# Altium integrated library Microchip Thermal Management.IntLib: 360 symbols (part 5 of 10)
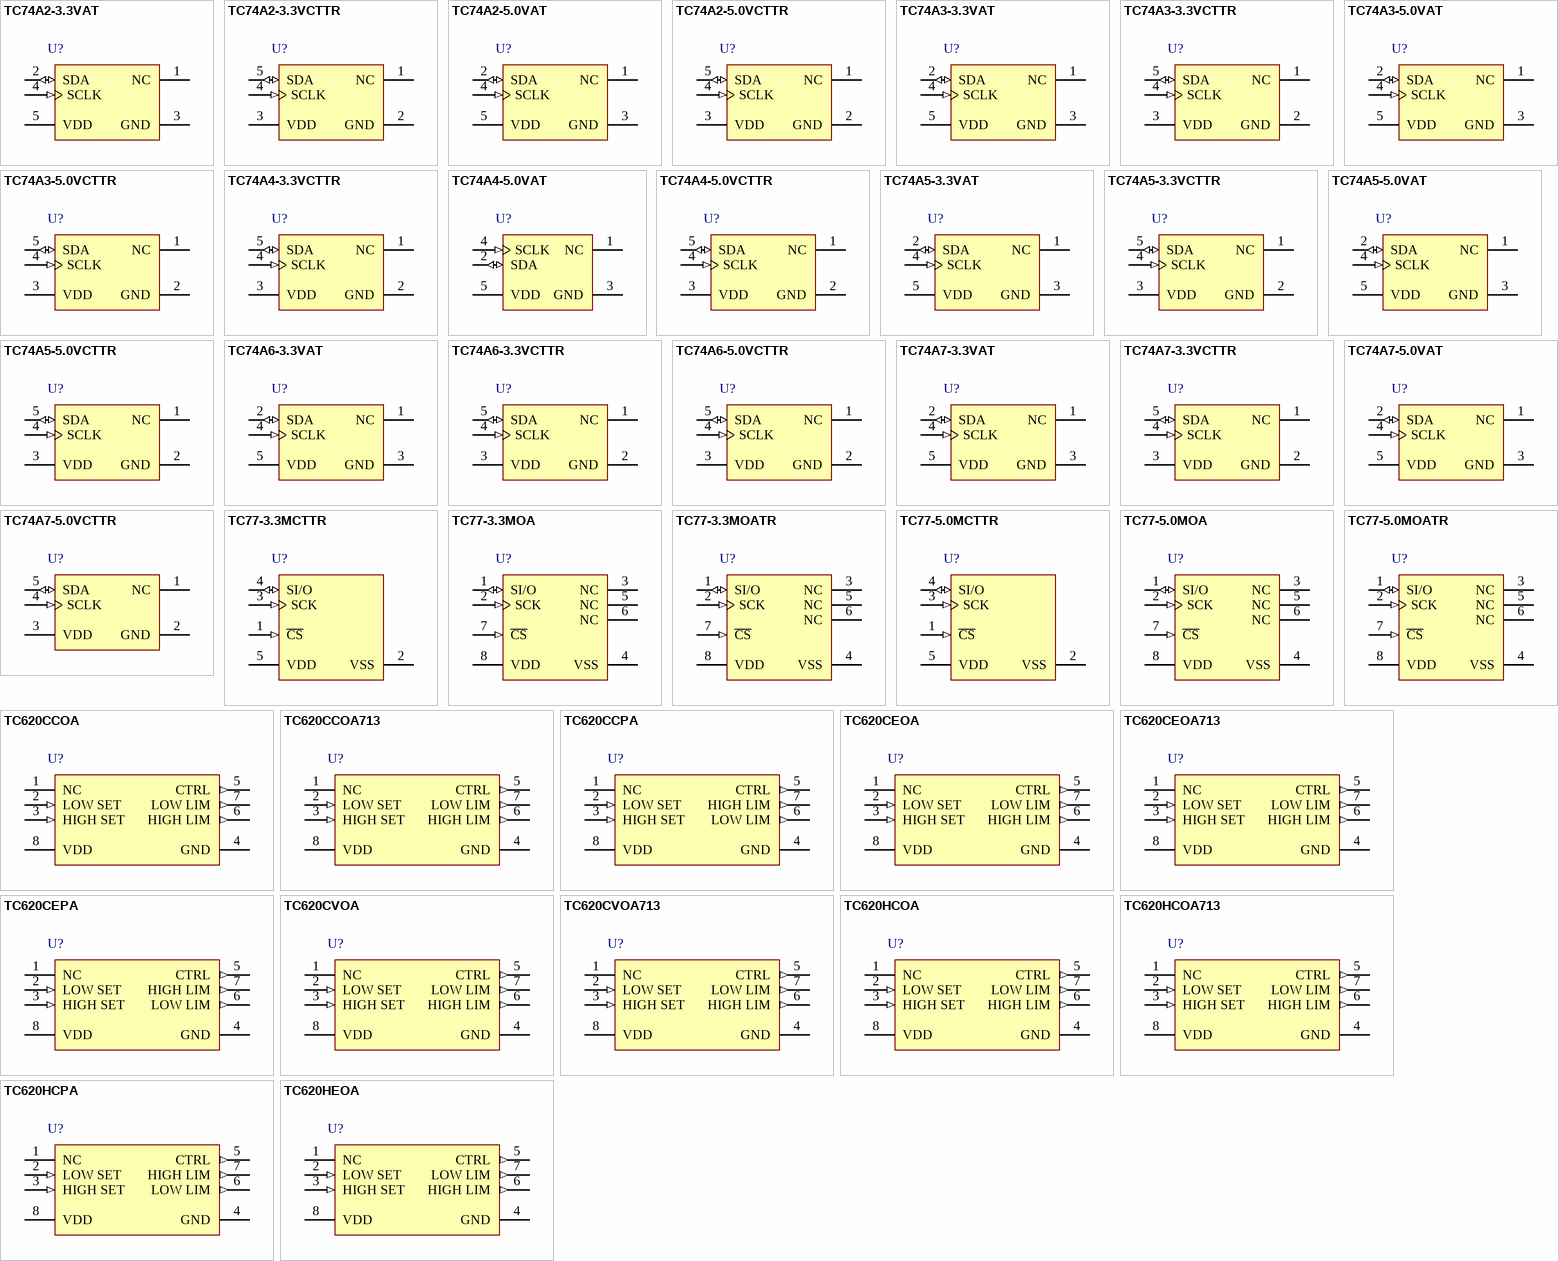
[diagram p13: symbols TC74A2-3.3VAT to TC620HEOA]

## TC77-5.0MOATR
designator U?
Thermal Sensor with SPI Interface, 8-Pin SOIC, -55°C to +125°C Temperature, Tape and Reel; Manufacturer: Microchip; PartNumber: TC77-5.0MOATR; DatasheetVersion: revA, Aug-2002; PackageVersion: revBB, Aug-2009; PackageReference: SOIC-OA8; PackageDescription: 8-Lead Plastic Small Outline (OA) - Narrow, 3.90mm Body [SOIC]; Supplier 1: Digi-Key; Supplier Part Number 1: TC77-5.0MOATR-ND; Supplier 2: Mouser; Supplier Part Number 2: 579-TC77-5.0MOATR; Mounting Technology: Surface Mount; Code_IPC: SOIC127P600-8; ComponentLink1Description: Manufacturer URL; ComponentLink1URL: http://www.microchip.com/; ComponentLink2Description: Datasheet; ComponentLink2URL: http://ww1.microchip.com/downloads/en/DeviceDoc/20092a.pdf; ComponentLink3Description: Package Specification; ComponentLink3URL: http://www.microchip.com/stellent/groups/techpub_sg/documents/packagingspec/en012702.pdf
footprint SOIC-OA8_N (SOIC, 8-Leads, Body 4.9x3.9mm, Pitch 1.27mm, IPC Medium Density)
footprint SOIC-OA8_L (SOIC, 8-Leads, Body 4.9x3.9mm, Pitch 1.27mm, IPC High Density)
footprint SOIC-OA8_M (SOIC, 8-Leads, Body 4.9x3.9mm, Pitch 1.27mm, IPC Low Density)
pins: 1 SI/O (io), 2 SCK (in), 3 NC, 4 VSS (power), 5 NC, 6 NC, 7 ~{CS} (in), 8 VDD (power)

## TC620CCOA
designator U?
5V, Dual Trip Point Temperature Sensor, 8-Pin SOIC, Commercial Temperature; Manufacturer: Microchip; PartNumber: TC620CCOA; DatasheetVersion: revC, Oct-2005; PackageVersion: revBB, Aug-2009; PackageReference: SOIC-OA8; PackageDescription: 8-Lead Plastic Small Outline (OA) - Narrow, 3.90mm Body [SOIC]; Supplier 1: Digi-Key; Supplier Part Number 1: TC620CCOA-ND; Supplier 2: Newark; Supplier Part Number 2: 33C1170; Supplier 3: Mouser; Supplier Part Number 3: 579-TC620CCOA; Mounting Technology: Surface Mount; Code_IPC: SOIC127P600-8; ComponentLink1Description: Manufacturer URL; ComponentLink1URL: http://www.microchip.com/; ComponentLink2Description: Datasheet; ComponentLink2URL: http://ww1.microchip.com/downloads/en/DeviceDoc/21439C.pdf; ComponentLink3Description: Package Specification; ComponentLink3URL: http://www.microchip.com/stellent/groups/techpub_sg/documents/packagingspec/en012702.pdf
footprint SOIC-OA8_N (SOIC, 8-Leads, Body 4.9x3.9mm, Pitch 1.27mm, IPC Medium Density)
footprint SOIC-OA8_L (SOIC, 8-Leads, Body 4.9x3.9mm, Pitch 1.27mm, IPC High Density)
footprint SOIC-OA8_M (SOIC, 8-Leads, Body 4.9x3.9mm, Pitch 1.27mm, IPC Low Density)
pins: 1 NC, 2 LOW SET (in), 3 HIGH SET (in), 4 GND (power), 5 CTRL (out), 6 HIGH LIM (out), 7 LOW LIM (out), 8 VDD (power)

## TC620CCOA713
designator U?
5V, Dual Trip Point Temperature Sensor, 8-Pin SOIC, Commercial Temperature, Tape and Reel; Manufacturer: Microchip; PartNumber: TC620CCOA713; DatasheetVersion: revC, Oct-2005; PackageVersion: revBB, Aug-2009; PackageReference: SOIC-OA8; PackageDescription: 8-Lead Plastic Small Outline (OA) - Narrow, 3.90mm Body [SOIC]; Supplier 1: Digi-Key; Supplier Part Number 1: TC620CCOA713-ND; Supplier 2: Mouser; Supplier Part Number 2: 579-TC620CCOA713; Mounting Technology: Surface Mount; Code_IPC: SOIC127P600-8; ComponentLink1Description: Manufacturer URL; ComponentLink1URL: http://www.microchip.com/; ComponentLink2Description: Datasheet; ComponentLink2URL: http://ww1.microchip.com/downloads/en/DeviceDoc/21439C.pdf; ComponentLink3Description: Package Specification; ComponentLink3URL: http://www.microchip.com/stellent/groups/techpub_sg/documents/packagingspec/en012702.pdf
footprint SOIC-OA8_N (SOIC, 8-Leads, Body 4.9x3.9mm, Pitch 1.27mm, IPC Medium Density)
footprint SOIC-OA8_L (SOIC, 8-Leads, Body 4.9x3.9mm, Pitch 1.27mm, IPC High Density)
footprint SOIC-OA8_M (SOIC, 8-Leads, Body 4.9x3.9mm, Pitch 1.27mm, IPC Low Density)
pins: 1 NC, 2 LOW SET (in), 3 HIGH SET (in), 4 GND (power), 5 CTRL (out), 6 HIGH LIM (out), 7 LOW LIM (out), 8 VDD (power)

## TC620CCPA
designator U?
5V, Dual Trip Point Temperature Sensor, 8-Pin PDIP, Commercial Temperature; Manufacturer: Microchip; PartNumber: TC620CCPA; DatasheetVersion: revC, Oct-2005; PackageVersion: revBB, Aug-2009; PackageReference: PDIP300-PA8; PackageDescription: 8-Lead Plastic Dual In-Line (PA) - 300 mil Body [PDIP]; Supplier 1: Digi-Key; Supplier Part Number 1: TC620CCPA-ND; Supplier 2: Newark; Supplier Part Number 2: 96K4029; Supplier 3: Mouser; Supplier Part Number 3: 579-TC620CCPA; Mounting Technology: Through Hole; Code_JEDEC: MS-001-BA; ComponentLink1Description: Manufacturer URL; ComponentLink1URL: http://www.microchip.com/; ComponentLink2Description: Datasheet; ComponentLink2URL: http://ww1.microchip.com/downloads/en/DeviceDoc/21439C.pdf; ComponentLink3Description: Package Specification; ComponentLink3URL: http://www.microchip.com/stellent/groups/techpub_sg/documents/packagingspec/en012702.pdf
footprint PDIP300-PA8 (DIP, 8-Leads, Row Spacing 7.62mm, Pitch 2.54mm, Body 9.5x6.6mm)
pins: 1 NC, 2 LOW SET (in), 3 HIGH SET (in), 4 GND (power), 5 CTRL (out), 6 LOW LIM (out), 7 HIGH LIM (out), 8 VDD (power)

## TC620CEOA
designator U?
5V, Dual Trip Point Temperature Sensor, 8-Pin SOIC, Industrial Temperature; Manufacturer: Microchip; PartNumber: TC620CEOA; DatasheetVersion: revC, Oct-2005; PackageVersion: revBB, Aug-2009; PackageReference: SOIC-OA8; PackageDescription: 8-Lead Plastic Small Outline (OA) - Narrow, 3.90mm Body [SOIC]; Supplier 1: Digi-Key; Supplier Part Number 1: TC620CEOA-ND; Supplier 2: Farnell; Supplier Part Number 2: 1852235; Supplier 3: Newark; Supplier Part Number 3: 96K4030; Supplier 4: Mouser; Supplier Part Number 4: 579-TC620CEOA; Mounting Technology: Surface Mount; Code_IPC: SOIC127P600-8; ComponentLink1Description: Manufacturer URL; ComponentLink1URL: http://www.microchip.com/; ComponentLink2Description: Datasheet; ComponentLink2URL: http://ww1.microchip.com/downloads/en/DeviceDoc/21439C.pdf; ComponentLink3Description: Package Specification; ComponentLink3URL: http://www.microchip.com/stellent/groups/techpub_sg/documents/packagingspec/en012702.pdf
footprint SOIC-OA8_N (SOIC, 8-Leads, Body 4.9x3.9mm, Pitch 1.27mm, IPC Medium Density)
footprint SOIC-OA8_L (SOIC, 8-Leads, Body 4.9x3.9mm, Pitch 1.27mm, IPC High Density)
footprint SOIC-OA8_M (SOIC, 8-Leads, Body 4.9x3.9mm, Pitch 1.27mm, IPC Low Density)
pins: 1 NC, 2 LOW SET (in), 3 HIGH SET (in), 4 GND (power), 5 CTRL (out), 6 HIGH LIM (out), 7 LOW LIM (out), 8 VDD (power)

## TC620CEOA713
designator U?
5V, Dual Trip Point Temperature Sensor, 8-Pin SOIC, Industrial Temperature, Tape and Reel; Manufacturer: Microchip; PartNumber: TC620CEOA713; DatasheetVersion: revC, Oct-2005; PackageVersion: revBB, Aug-2009; PackageReference: SOIC-OA8; PackageDescription: 8-Lead Plastic Small Outline (OA) - Narrow, 3.90mm Body [SOIC]; Supplier 1: Digi-Key; Supplier Part Number 1: TC620CEOA713-ND; Supplier 2: Mouser; Supplier Part Number 2: 579-TC620CEOA713; Mounting Technology: Surface Mount; Code_IPC: SOIC127P600-8; ComponentLink1Description: Manufacturer URL; ComponentLink1URL: http://www.microchip.com/; ComponentLink2Description: Datasheet; ComponentLink2URL: http://ww1.microchip.com/downloads/en/DeviceDoc/21439C.pdf; ComponentLink3Description: Package Specification; ComponentLink3URL: http://www.microchip.com/stellent/groups/techpub_sg/documents/packagingspec/en012702.pdf
footprint SOIC-OA8_N (SOIC, 8-Leads, Body 4.9x3.9mm, Pitch 1.27mm, IPC Medium Density)
footprint SOIC-OA8_L (SOIC, 8-Leads, Body 4.9x3.9mm, Pitch 1.27mm, IPC High Density)
footprint SOIC-OA8_M (SOIC, 8-Leads, Body 4.9x3.9mm, Pitch 1.27mm, IPC Low Density)
pins: 1 NC, 2 LOW SET (in), 3 HIGH SET (in), 4 GND (power), 5 CTRL (out), 6 HIGH LIM (out), 7 LOW LIM (out), 8 VDD (power)

## TC620CEPA
designator U?
5V, Dual Trip Point Temperature Sensor, 8-Pin PDIP, Industrial Temperature; Manufacturer: Microchip; PartNumber: TC620CEPA; DatasheetVersion: revC, Oct-2005; PackageVersion: revBB, Aug-2009; PackageReference: PDIP300-PA8; PackageDescription: 8-Lead Plastic Dual In-Line (PA) - 300 mil Body [PDIP]; Supplier 1: Digi-Key; Supplier Part Number 1: TC620CEPA-ND; Supplier 2: Farnell; Supplier Part Number 2: 1852236; Supplier 3: Newark; Supplier Part Number 3: 92C6312; Supplier 4: Mouser; Supplier Part Number 4: 579-TC620CEPA; Mounting Technology: Through Hole; Code_JEDEC: MS-001-BA; ComponentLink1Description: Manufacturer URL; ComponentLink1URL: http://www.microchip.com/; ComponentLink2Description: Datasheet; ComponentLink2URL: http://ww1.microchip.com/downloads/en/DeviceDoc/21439C.pdf; ComponentLink3Description: Package Specification; ComponentLink3URL: http://www.microchip.com/stellent/groups/techpub_sg/documents/packagingspec/en012702.pdf
footprint PDIP300-PA8 (DIP, 8-Leads, Row Spacing 7.62mm, Pitch 2.54mm, Body 9.5x6.6mm)
pins: 1 NC, 2 LOW SET (in), 3 HIGH SET (in), 4 GND (power), 5 CTRL (out), 6 LOW LIM (out), 7 HIGH LIM (out), 8 VDD (power)

## TC620CVOA
designator U?
5V, Dual Trip Point Temperature Sensor, 8-Pin SOIC, Extended Temperature; Manufacturer: Microchip; PartNumber: TC620CVOA; DatasheetVersion: revC, Oct-2005; PackageVersion: revBB, Aug-2009; PackageReference: SOIC-OA8; PackageDescription: 8-Lead Plastic Small Outline (OA) - Narrow, 3.90mm Body [SOIC]; Supplier 1: Digi-Key; Supplier Part Number 1: TC620CVOA-ND; Supplier 2: Newark; Supplier Part Number 2: 92C6313; Supplier 3: Mouser; Supplier Part Number 3: 579-TC620CVOA; Mounting Technology: Surface Mount; Code_IPC: SOIC127P600-8; ComponentLink1Description: Manufacturer URL; ComponentLink1URL: http://www.microchip.com/; ComponentLink2Description: Datasheet; ComponentLink2URL: http://ww1.microchip.com/downloads/en/DeviceDoc/21439C.pdf; ComponentLink3Description: Package Specification; ComponentLink3URL: http://www.microchip.com/stellent/groups/techpub_sg/documents/packagingspec/en012702.pdf
footprint SOIC-OA8_N (SOIC, 8-Leads, Body 4.9x3.9mm, Pitch 1.27mm, IPC Medium Density)
footprint SOIC-OA8_L (SOIC, 8-Leads, Body 4.9x3.9mm, Pitch 1.27mm, IPC High Density)
footprint SOIC-OA8_M (SOIC, 8-Leads, Body 4.9x3.9mm, Pitch 1.27mm, IPC Low Density)
pins: 1 NC, 2 LOW SET (in), 3 HIGH SET (in), 4 GND (power), 5 CTRL (out), 6 HIGH LIM (out), 7 LOW LIM (out), 8 VDD (power)

## TC620CVOA713
designator U?
5V, Dual Trip Point Temperature Sensor, 8-Pin SOIC, Extended Temperature, Tape and Reel; Manufacturer: Microchip; PartNumber: TC620CVOA713; DatasheetVersion: revC, Oct-2005; PackageVersion: revBB, Aug-2009; PackageReference: SOIC-OA8; PackageDescription: 8-Lead Plastic Small Outline (OA) - Narrow, 3.90mm Body [SOIC]; Supplier 1: Digi-Key; Supplier Part Number 1: TC620CVOA713-ND; Supplier 2: Mouser; Supplier Part Number 2: 579-TC620CVOA713; Mounting Technology: Surface Mount; Code_IPC: SOIC127P600-8; ComponentLink1Description: Manufacturer URL; ComponentLink1URL: http://www.microchip.com/; ComponentLink2Description: Datasheet; ComponentLink2URL: http://ww1.microchip.com/downloads/en/DeviceDoc/21439C.pdf; ComponentLink3Description: Package Specification; ComponentLink3URL: http://www.microchip.com/stellent/groups/techpub_sg/documents/packagingspec/en012702.pdf
footprint SOIC-OA8_N (SOIC, 8-Leads, Body 4.9x3.9mm, Pitch 1.27mm, IPC Medium Density)
footprint SOIC-OA8_L (SOIC, 8-Leads, Body 4.9x3.9mm, Pitch 1.27mm, IPC High Density)
footprint SOIC-OA8_M (SOIC, 8-Leads, Body 4.9x3.9mm, Pitch 1.27mm, IPC Low Density)
pins: 1 NC, 2 LOW SET (in), 3 HIGH SET (in), 4 GND (power), 5 CTRL (out), 6 HIGH LIM (out), 7 LOW LIM (out), 8 VDD (power)

## TC620HCOA
designator U?
5V, Dual Trip Point Temperature Sensor, 8-Pin SOIC, Commercial Temperature; Manufacturer: Microchip; PartNumber: TC620HCOA; DatasheetVersion: revC, Oct-2005; PackageVersion: revBB, Aug-2009; PackageReference: SOIC-OA8; PackageDescription: 8-Lead Plastic Small Outline (OA) - Narrow, 3.90mm Body [SOIC]; Supplier 1: Digi-Key; Supplier Part Number 1: TC620HCOA-ND; Supplier 2: Mouser; Supplier Part Number 2: 579-TC620HCOA; Mounting Technology: Surface Mount; Code_IPC: SOIC127P600-8; ComponentLink1Description: Manufacturer URL; ComponentLink1URL: http://www.microchip.com/; ComponentLink2Description: Datasheet; ComponentLink2URL: http://ww1.microchip.com/downloads/en/DeviceDoc/21439C.pdf; ComponentLink3Description: Package Specification; ComponentLink3URL: http://www.microchip.com/stellent/groups/techpub_sg/documents/packagingspec/en012702.pdf
footprint SOIC-OA8_N (SOIC, 8-Leads, Body 4.9x3.9mm, Pitch 1.27mm, IPC Medium Density)
footprint SOIC-OA8_L (SOIC, 8-Leads, Body 4.9x3.9mm, Pitch 1.27mm, IPC High Density)
footprint SOIC-OA8_M (SOIC, 8-Leads, Body 4.9x3.9mm, Pitch 1.27mm, IPC Low Density)
pins: 1 NC, 2 LOW SET (in), 3 HIGH SET (in), 4 GND (power), 5 CTRL (out), 6 HIGH LIM (out), 7 LOW LIM (out), 8 VDD (power)

## TC620HCOA713
designator U?
5V, Dual Trip Point Temperature Sensor, 8-Pin SOIC, Commercial Temperature, Tape and Reel; Manufacturer: Microchip; PartNumber: TC620HCOA713; DatasheetVersion: revC, Oct-2005; PackageVersion: revBB, Aug-2009; PackageReference: SOIC-OA8; PackageDescription: 8-Lead Plastic Small Outline (OA) - Narrow, 3.90mm Body [SOIC]; Supplier 1: Digi-Key; Supplier Part Number 1: TC620HCOA713-ND; Supplier 2: Mouser; Supplier Part Number 2: 579-TC620HCOA713; Mounting Technology: Surface Mount; Code_IPC: SOIC127P600-8; ComponentLink1Description: Manufacturer URL; ComponentLink1URL: http://www.microchip.com/; ComponentLink2Description: Datasheet; ComponentLink2URL: http://ww1.microchip.com/downloads/en/DeviceDoc/21439C.pdf; ComponentLink3Description: Package Specification; ComponentLink3URL: http://www.microchip.com/stellent/groups/techpub_sg/documents/packagingspec/en012702.pdf
footprint SOIC-OA8_N (SOIC, 8-Leads, Body 4.9x3.9mm, Pitch 1.27mm, IPC Medium Density)
footprint SOIC-OA8_L (SOIC, 8-Leads, Body 4.9x3.9mm, Pitch 1.27mm, IPC High Density)
footprint SOIC-OA8_M (SOIC, 8-Leads, Body 4.9x3.9mm, Pitch 1.27mm, IPC Low Density)
pins: 1 NC, 2 LOW SET (in), 3 HIGH SET (in), 4 GND (power), 5 CTRL (out), 6 HIGH LIM (out), 7 LOW LIM (out), 8 VDD (power)

## TC620HCPA
designator U?
5V, Dual Trip Point Temperature Sensor, 8-Pin PDIP, Commercial Temperature; Manufacturer: Microchip; PartNumber: TC620HCPA; DatasheetVersion: revC, Oct-2005; PackageVersion: revBB, Aug-2009; PackageReference: PDIP300-PA8; PackageDescription: 8-Lead Plastic Dual In-Line (PA) - 300 mil Body [PDIP]; Supplier 1: Digi-Key; Supplier Part Number 1: TC620HCPA-ND; Supplier 2: Mouser; Supplier Part Number 2: 579-TC620HCPA; Mounting Technology: Through Hole; Code_JEDEC: MS-001-BA; ComponentLink1Description: Manufacturer URL; ComponentLink1URL: http://www.microchip.com/; ComponentLink2Description: Datasheet; ComponentLink2URL: http://ww1.microchip.com/downloads/en/DeviceDoc/21439C.pdf; ComponentLink3Description: Package Specification; ComponentLink3URL: http://www.microchip.com/stellent/groups/techpub_sg/documents/packagingspec/en012702.pdf
footprint PDIP300-PA8 (DIP, 8-Leads, Row Spacing 7.62mm, Pitch 2.54mm, Body 9.5x6.6mm)
pins: 1 NC, 2 LOW SET (in), 3 HIGH SET (in), 4 GND (power), 5 CTRL (out), 6 LOW LIM (out), 7 HIGH LIM (out), 8 VDD (power)

## TC620HEOA
designator U?
5V, Dual Trip Point Temperature Sensor, 8-Pin SOIC, Industrial Temperature; Manufacturer: Microchip; PartNumber: TC620HEOA; DatasheetVersion: revC, Oct-2005; PackageVersion: revBB, Aug-2009; PackageReference: SOIC-OA8; PackageDescription: 8-Lead Plastic Small Outline (OA) - Narrow, 3.90mm Body [SOIC]; Supplier 1: Digi-Key; Supplier Part Number 1: TC620HEOA-ND; Supplier 2: Farnell; Supplier Part Number 2: 1852237; Supplier 3: Newark; Supplier Part Number 3: 92C6318; Supplier 4: Mouser; Supplier Part Number 4: 579-TC620HEOA; Mounting Technology: Surface Mount; Code_IPC: SOIC127P600-8; ComponentLink1Description: Manufacturer URL; ComponentLink1URL: http://www.microchip.com/; ComponentLink2Description: Datasheet; ComponentLink2URL: http://ww1.microchip.com/downloads/en/DeviceDoc/21439C.pdf; ComponentLink3Description: Package Specification; ComponentLink3URL: http://www.microchip.com/stellent/groups/techpub_sg/documents/packagingspec/en012702.pdf
footprint SOIC-OA8_N (SOIC, 8-Leads, Body 4.9x3.9mm, Pitch 1.27mm, IPC Medium Density)
footprint SOIC-OA8_L (SOIC, 8-Leads, Body 4.9x3.9mm, Pitch 1.27mm, IPC High Density)
footprint SOIC-OA8_M (SOIC, 8-Leads, Body 4.9x3.9mm, Pitch 1.27mm, IPC Low Density)
pins: 1 NC, 2 LOW SET (in), 3 HIGH SET (in), 4 GND (power), 5 CTRL (out), 6 HIGH LIM (out), 7 LOW LIM (out), 8 VDD (power)

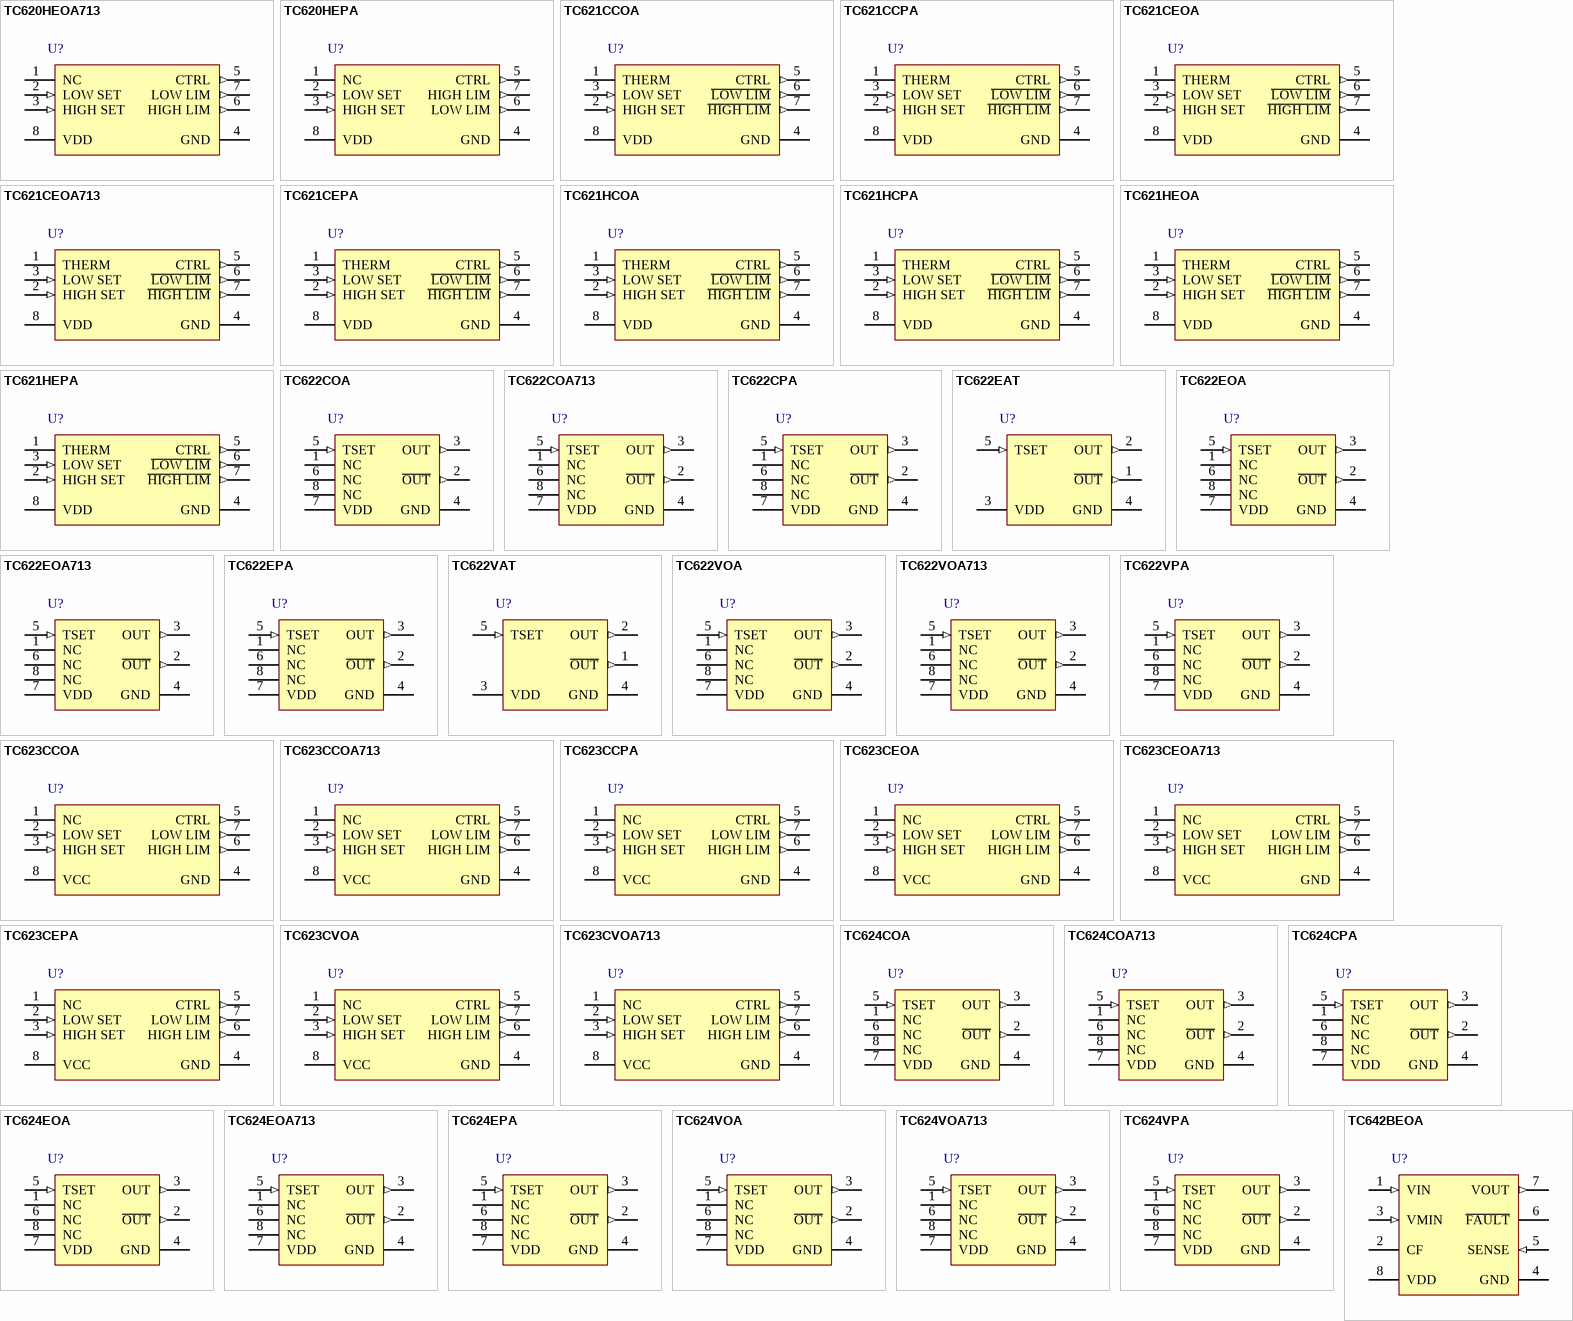
[diagram p4: symbols TC620HEOA713 to TC642BEOA]

## TC620HEOA713
designator U?
5V, Dual Trip Point Temperature Sensor, 8-Pin SOIC, Industrial Temperature, Tape and Reel; Manufacturer: Microchip; PartNumber: TC620HEOA713; DatasheetVersion: revC, Oct-2005; PackageVersion: revBB, Aug-2009; PackageReference: SOIC-OA8; PackageDescription: 8-Lead Plastic Small Outline (OA) - Narrow, 3.90mm Body [SOIC]; Supplier 1: Digi-Key; Supplier Part Number 1: TC620HEOA713-ND; Supplier 2: Mouser; Supplier Part Number 2: 579-TC620HEOA713; Mounting Technology: Surface Mount; Code_IPC: SOIC127P600-8; ComponentLink1Description: Manufacturer URL; ComponentLink1URL: http://www.microchip.com/; ComponentLink2Description: Datasheet; ComponentLink2URL: http://ww1.microchip.com/downloads/en/DeviceDoc/21439C.pdf; ComponentLink3Description: Package Specification; ComponentLink3URL: http://www.microchip.com/stellent/groups/techpub_sg/documents/packagingspec/en012702.pdf
footprint SOIC-OA8_N (SOIC, 8-Leads, Body 4.9x3.9mm, Pitch 1.27mm, IPC Medium Density)
footprint SOIC-OA8_L (SOIC, 8-Leads, Body 4.9x3.9mm, Pitch 1.27mm, IPC High Density)
footprint SOIC-OA8_M (SOIC, 8-Leads, Body 4.9x3.9mm, Pitch 1.27mm, IPC Low Density)
pins: 1 NC, 2 LOW SET (in), 3 HIGH SET (in), 4 GND (power), 5 CTRL (out), 6 HIGH LIM (out), 7 LOW LIM (out), 8 VDD (power)

## TC620HEPA
designator U?
5V, Dual Trip Point Temperature Sensor, 8-Pin PDIP, Industrial Temperature; Manufacturer: Microchip; PartNumber: TC620HEPA; DatasheetVersion: revC, Oct-2005; PackageVersion: revBB, Aug-2009; PackageReference: PDIP300-PA8; PackageDescription: 8-Lead Plastic Dual In-Line (PA) - 300 mil Body [PDIP]; Supplier 1: Digi-Key; Supplier Part Number 1: TC620HEPA-ND; Supplier 2: Farnell; Supplier Part Number 2: 1852238; Supplier 3: Newark; Supplier Part Number 3: 92C6320; Supplier 4: Mouser; Supplier Part Number 4: 579-TC620HEPA; Mounting Technology: Through Hole; Code_JEDEC: MS-001-BA; ComponentLink1Description: Manufacturer URL; ComponentLink1URL: http://www.microchip.com/; ComponentLink2Description: Datasheet; ComponentLink2URL: http://ww1.microchip.com/downloads/en/DeviceDoc/21439C.pdf; ComponentLink3Description: Package Specification; ComponentLink3URL: http://www.microchip.com/stellent/groups/techpub_sg/documents/packagingspec/en012702.pdf
footprint PDIP300-PA8 (DIP, 8-Leads, Row Spacing 7.62mm, Pitch 2.54mm, Body 9.5x6.6mm)
pins: 1 NC, 2 LOW SET (in), 3 HIGH SET (in), 4 GND (power), 5 CTRL (out), 6 LOW LIM (out), 7 HIGH LIM (out), 8 VDD (power)

## TC621CCOA
designator U?
5V, Dual Trip Point Temperature Sensor, 8-Pin SOIC, Commercial Temperature; Manufacturer: Microchip; PartNumber: TC621CCOA; DatasheetVersion: revC, Oct-2005; PackageVersion: revBB, Aug-2009; PackageReference: SOIC-OA8; PackageDescription: 8-Lead Plastic Small Outline (OA) - Narrow, 3.90mm Body [SOIC]; Supplier 1: Digi-Key; Supplier Part Number 1: TC621CCOA-ND; Supplier 2: Mouser; Supplier Part Number 2: 579-TC621CCOA; Mounting Technology: Surface Mount; Code_IPC: SOIC127P600-8; ComponentLink1Description: Manufacturer URL; ComponentLink1URL: http://www.microchip.com/; ComponentLink2Description: Datasheet; ComponentLink2URL: http://ww1.microchip.com/downloads/en/DeviceDoc/21439C.pdf; ComponentLink3Description: Package Specification; ComponentLink3URL: http://www.microchip.com/stellent/groups/techpub_sg/documents/packagingspec/en012702.pdf
footprint SOIC-OA8_N (SOIC, 8-Leads, Body 4.9x3.9mm, Pitch 1.27mm, IPC Medium Density)
footprint SOIC-OA8_L (SOIC, 8-Leads, Body 4.9x3.9mm, Pitch 1.27mm, IPC High Density)
footprint SOIC-OA8_M (SOIC, 8-Leads, Body 4.9x3.9mm, Pitch 1.27mm, IPC Low Density)
pins: 1 THERM, 2 HIGH SET (in), 3 LOW SET (in), 4 GND (power), 5 CTRL (out), 6 ~{LOW LIM} (out), 7 ~{HIGH LIM} (out), 8 VDD (power)

## TC621CCPA
designator U?
5V, Dual Trip Point Temperature Sensor, 8-Pin PDIP, Commercial Temperature; Manufacturer: Microchip; PartNumber: TC621CCPA; DatasheetVersion: revC, Oct-2005; PackageVersion: revBB, Aug-2009; PackageReference: PDIP300-PA8; PackageDescription: 8-Lead Plastic Dual In-Line (PA) - 300 mil Body [PDIP]; Supplier 1: Digi-Key; Supplier Part Number 1: TC621CCPA-ND; Supplier 2: Mouser; Supplier Part Number 2: 579-TC621CCPA; Mounting Technology: Through Hole; Code_JEDEC: MS-001-BA; ComponentLink1Description: Manufacturer URL; ComponentLink1URL: http://www.microchip.com/; ComponentLink2Description: Datasheet; ComponentLink2URL: http://ww1.microchip.com/downloads/en/DeviceDoc/21439C.pdf; ComponentLink3Description: Package Specification; ComponentLink3URL: http://www.microchip.com/stellent/groups/techpub_sg/documents/packagingspec/en012702.pdf
footprint PDIP300-PA8 (DIP, 8-Leads, Row Spacing 7.62mm, Pitch 2.54mm, Body 9.5x6.6mm)
pins: 1 THERM, 2 HIGH SET (in), 3 LOW SET (in), 4 GND (power), 5 CTRL (out), 6 ~{LOW LIM} (out), 7 ~{HIGH LIM} (out), 8 VDD (power)

## TC621CEOA
designator U?
5V, Dual Trip Point Temperature Sensor, 8-Pin SOIC, Industrial Temperature; Manufacturer: Microchip; PartNumber: TC621CEOA; DatasheetVersion: revC, Oct-2005; PackageVersion: revBB, Aug-2009; PackageReference: SOIC-OA8; PackageDescription: 8-Lead Plastic Small Outline (OA) - Narrow, 3.90mm Body [SOIC]; Supplier 1: Digi-Key; Supplier Part Number 1: TC621CEOA-ND; Supplier 2: Farnell; Supplier Part Number 2: 1852239; Supplier 3: Newark; Supplier Part Number 3: 92C6324; Supplier 4: Mouser; Supplier Part Number 4: 579-TC621CEOA; Mounting Technology: Surface Mount; Code_IPC: SOIC127P600-8; ComponentLink1Description: Manufacturer URL; ComponentLink1URL: http://www.microchip.com/; ComponentLink2Description: Datasheet; ComponentLink2URL: http://ww1.microchip.com/downloads/en/DeviceDoc/21439C.pdf; ComponentLink3Description: Package Specification; ComponentLink3URL: http://www.microchip.com/stellent/groups/techpub_sg/documents/packagingspec/en012702.pdf
footprint SOIC-OA8_N (SOIC, 8-Leads, Body 4.9x3.9mm, Pitch 1.27mm, IPC Medium Density)
footprint SOIC-OA8_L (SOIC, 8-Leads, Body 4.9x3.9mm, Pitch 1.27mm, IPC High Density)
footprint SOIC-OA8_M (SOIC, 8-Leads, Body 4.9x3.9mm, Pitch 1.27mm, IPC Low Density)
pins: 1 THERM, 2 HIGH SET (in), 3 LOW SET (in), 4 GND (power), 5 CTRL (out), 6 ~{LOW LIM} (out), 7 ~{HIGH LIM} (out), 8 VDD (power)

## TC621CEOA713
designator U?
5V, Dual Trip Point Temperature Sensor, 8-Pin SOIC, Industrial Temperature, Tape and Reel; Manufacturer: Microchip; PartNumber: TC621CEOA713; DatasheetVersion: revC, Oct-2005; PackageVersion: revBB, Aug-2009; PackageReference: SOIC-OA8; PackageDescription: 8-Lead Plastic Small Outline (OA) - Narrow, 3.90mm Body [SOIC]; Supplier 1: Digi-Key; Supplier Part Number 1: TC621CEOA713-ND; Supplier 2: Mouser; Supplier Part Number 2: 579-TC621CEOA713; Mounting Technology: Surface Mount; Code_IPC: SOIC127P600-8; ComponentLink1Description: Manufacturer URL; ComponentLink1URL: http://www.microchip.com/; ComponentLink2Description: Datasheet; ComponentLink2URL: http://ww1.microchip.com/downloads/en/DeviceDoc/21439C.pdf; ComponentLink3Description: Package Specification; ComponentLink3URL: http://www.microchip.com/stellent/groups/techpub_sg/documents/packagingspec/en012702.pdf
footprint SOIC-OA8_N (SOIC, 8-Leads, Body 4.9x3.9mm, Pitch 1.27mm, IPC Medium Density)
footprint SOIC-OA8_L (SOIC, 8-Leads, Body 4.9x3.9mm, Pitch 1.27mm, IPC High Density)
footprint SOIC-OA8_M (SOIC, 8-Leads, Body 4.9x3.9mm, Pitch 1.27mm, IPC Low Density)
pins: 1 THERM, 2 HIGH SET (in), 3 LOW SET (in), 4 GND (power), 5 CTRL (out), 6 ~{LOW LIM} (out), 7 ~{HIGH LIM} (out), 8 VDD (power)

## TC621CEPA
designator U?
5V, Dual Trip Point Temperature Sensor, 8-Pin PDIP, Industrial Temperature; Manufacturer: Microchip; PartNumber: TC621CEPA; DatasheetVersion: revC, Oct-2005; PackageVersion: revBB, Aug-2009; PackageReference: PDIP300-PA8; PackageDescription: 8-Lead Plastic Dual In-Line (PA) - 300 mil Body [PDIP]; Supplier 1: Digi-Key; Supplier Part Number 1: TC621CEPA-ND; Supplier 2: Farnell; Supplier Part Number 2: 1852240; Supplier 3: Newark; Supplier Part Number 3: 92C6326; Supplier 4: Mouser; Supplier Part Number 4: 579-TC621CEPA; Mounting Technology: Through Hole; Code_JEDEC: MS-001-BA; ComponentLink1Description: Manufacturer URL; ComponentLink1URL: http://www.microchip.com/; ComponentLink2Description: Datasheet; ComponentLink2URL: http://ww1.microchip.com/downloads/en/DeviceDoc/21439C.pdf; ComponentLink3Description: Package Specification; ComponentLink3URL: http://www.microchip.com/stellent/groups/techpub_sg/documents/packagingspec/en012702.pdf
footprint PDIP300-PA8 (DIP, 8-Leads, Row Spacing 7.62mm, Pitch 2.54mm, Body 9.5x6.6mm)
pins: 1 THERM, 2 HIGH SET (in), 3 LOW SET (in), 4 GND (power), 5 CTRL (out), 6 ~{LOW LIM} (out), 7 ~{HIGH LIM} (out), 8 VDD (power)

## TC621HCOA
designator U?
5V, Dual Trip Point Temperature Sensor, 8-Pin SOIC, Commercial Temperature; Manufacturer: Microchip; PartNumber: TC621HCOA; DatasheetVersion: revC, Oct-2005; PackageVersion: revBB, Aug-2009; PackageReference: SOIC-OA8; PackageDescription: 8-Lead Plastic Small Outline (OA) - Narrow, 3.90mm Body [SOIC]; Supplier 1: Digi-Key; Supplier Part Number 1: TC621HCOA-ND; Supplier 2: Mouser; Supplier Part Number 2: 579-TC621HCOA; Mounting Technology: Surface Mount; Code_IPC: SOIC127P600-8; ComponentLink1Description: Manufacturer URL; ComponentLink1URL: http://www.microchip.com/; ComponentLink2Description: Datasheet; ComponentLink2URL: http://ww1.microchip.com/downloads/en/DeviceDoc/21439C.pdf; ComponentLink3Description: Package Specification; ComponentLink3URL: http://www.microchip.com/stellent/groups/techpub_sg/documents/packagingspec/en012702.pdf
footprint SOIC-OA8_N (SOIC, 8-Leads, Body 4.9x3.9mm, Pitch 1.27mm, IPC Medium Density)
footprint SOIC-OA8_L (SOIC, 8-Leads, Body 4.9x3.9mm, Pitch 1.27mm, IPC High Density)
footprint SOIC-OA8_M (SOIC, 8-Leads, Body 4.9x3.9mm, Pitch 1.27mm, IPC Low Density)
pins: 1 THERM, 2 HIGH SET (in), 3 LOW SET (in), 4 GND (power), 5 CTRL (out), 6 ~{LOW LIM} (out), 7 ~{HIGH LIM} (out), 8 VDD (power)

## TC621HCPA
designator U?
5V, Dual Trip Point Temperature Sensor, 8-Pin PDIP, Commercial Temperature; Manufacturer: Microchip; PartNumber: TC621HCPA; DatasheetVersion: revC, Oct-2005; PackageVersion: revBB, Aug-2009; PackageReference: PDIP300-PA8; PackageDescription: 8-Lead Plastic Dual In-Line (PA) - 300 mil Body [PDIP]; Supplier 1: Digi-Key; Supplier Part Number 1: TC621HCPA-ND; Supplier 2: Mouser; Supplier Part Number 2: 579-TC621HCPA; Mounting Technology: Through Hole; Code_JEDEC: MS-001-BA; ComponentLink1Description: Manufacturer URL; ComponentLink1URL: http://www.microchip.com/; ComponentLink2Description: Datasheet; ComponentLink2URL: http://ww1.microchip.com/downloads/en/DeviceDoc/21439C.pdf; ComponentLink3Description: Package Specification; ComponentLink3URL: http://www.microchip.com/stellent/groups/techpub_sg/documents/packagingspec/en012702.pdf
footprint PDIP300-PA8 (DIP, 8-Leads, Row Spacing 7.62mm, Pitch 2.54mm, Body 9.5x6.6mm)
pins: 1 THERM, 2 HIGH SET (in), 3 LOW SET (in), 4 GND (power), 5 CTRL (out), 6 ~{LOW LIM} (out), 7 ~{HIGH LIM} (out), 8 VDD (power)

## TC621HEOA
designator U?
5V, Dual Trip Point Temperature Sensor, 8-Pin SOIC, Industrial Temperature; Manufacturer: Microchip; PartNumber: TC621HEOA; DatasheetVersion: revC, Oct-2005; PackageVersion: revBB, Aug-2009; PackageReference: SOIC-OA8; PackageDescription: 8-Lead Plastic Small Outline (OA) - Narrow, 3.90mm Body [SOIC]; Supplier 1: Digi-Key; Supplier Part Number 1: TC621HEOA-ND; Supplier 2: Farnell; Supplier Part Number 2: 1852241; Supplier 3: Newark; Supplier Part Number 3: 92C6330; Supplier 4: Mouser; Supplier Part Number 4: 579-TC621HEOA; Mounting Technology: Surface Mount; Code_IPC: SOIC127P600-8; ComponentLink1Description: Manufacturer URL; ComponentLink1URL: http://www.microchip.com/; ComponentLink2Description: Datasheet; ComponentLink2URL: http://ww1.microchip.com/downloads/en/DeviceDoc/21439C.pdf; ComponentLink3Description: Package Specification; ComponentLink3URL: http://www.microchip.com/stellent/groups/techpub_sg/documents/packagingspec/en012702.pdf
footprint SOIC-OA8_N (SOIC, 8-Leads, Body 4.9x3.9mm, Pitch 1.27mm, IPC Medium Density)
footprint SOIC-OA8_L (SOIC, 8-Leads, Body 4.9x3.9mm, Pitch 1.27mm, IPC High Density)
footprint SOIC-OA8_M (SOIC, 8-Leads, Body 4.9x3.9mm, Pitch 1.27mm, IPC Low Density)
pins: 1 THERM, 2 HIGH SET (in), 3 LOW SET (in), 4 GND (power), 5 CTRL (out), 6 ~{LOW LIM} (out), 7 ~{HIGH LIM} (out), 8 VDD (power)

## TC621HEPA
designator U?
5V, Dual Trip Point Temperature Sensor, 8-Pin PDIP, Industrial Temperature; Manufacturer: Microchip; PartNumber: TC621HEPA; DatasheetVersion: revC, Oct-2005; PackageVersion: revBB, Aug-2009; PackageReference: PDIP300-PA8; PackageDescription: 8-Lead Plastic Dual In-Line (PA) - 300 mil Body [PDIP]; Supplier 1: Digi-Key; Supplier Part Number 1: TC621HEPA-ND; Supplier 2: Farnell; Supplier Part Number 2: 1852242; Supplier 3: Newark; Supplier Part Number 3: 92C6332; Supplier 4: Mouser; Supplier Part Number 4: 579-TC621HEPA; Mounting Technology: Through Hole; Code_JEDEC: MS-001-BA; ComponentLink1Description: Manufacturer URL; ComponentLink1URL: http://www.microchip.com/; ComponentLink2Description: Datasheet; ComponentLink2URL: http://ww1.microchip.com/downloads/en/DeviceDoc/21439C.pdf; ComponentLink3Description: Package Specification; ComponentLink3URL: http://www.microchip.com/stellent/groups/techpub_sg/documents/packagingspec/en012702.pdf
footprint PDIP300-PA8 (DIP, 8-Leads, Row Spacing 7.62mm, Pitch 2.54mm, Body 9.5x6.6mm)
pins: 1 THERM, 2 HIGH SET (in), 3 LOW SET (in), 4 GND (power), 5 CTRL (out), 6 ~{LOW LIM} (out), 7 ~{HIGH LIM} (out), 8 VDD (power)

## TC622COA
designator U?
Low Cost Single Trip Point Temperature Sensor, 8-Pin SOIC, Commercial Temperature; Manufacturer: Microchip; PartNumber: TC622COA; DatasheetVersion: revC, Oct-2005; PackageVersion: revBB, Aug-2009; PackageReference: SOIC-OA8; PackageDescription: 8-Lead Plastic Small Outline (OA) - Narrow, 3.90mm Body [SOIC]; Supplier 1: Digi-Key; Supplier Part Number 1: TC622COA-ND; Supplier 2: Newark; Supplier Part Number 2: 96K4031; Supplier 3: Mouser; Supplier Part Number 3: 579-TC622COA; Mounting Technology: Surface Mount; Code_IPC: SOIC127P600-8; ComponentLink1Description: Manufacturer URL; ComponentLink1URL: http://www.microchip.com/; ComponentLink2Description: Datasheet; ComponentLink2URL: http://ww1.microchip.com/downloads/en/DeviceDoc/21440C.pdf; ComponentLink3Description: Package Specification; ComponentLink3URL: http://www.microchip.com/stellent/groups/techpub_sg/documents/packagingspec/en012702.pdf
footprint SOIC-OA8_N (SOIC, 8-Leads, Body 4.9x3.9mm, Pitch 1.27mm, IPC Medium Density)
footprint SOIC-OA8_L (SOIC, 8-Leads, Body 4.9x3.9mm, Pitch 1.27mm, IPC High Density)
footprint SOIC-OA8_M (SOIC, 8-Leads, Body 4.9x3.9mm, Pitch 1.27mm, IPC Low Density)
pins: 1 NC, 2 ~{OUT} (out), 3 OUT (out), 4 GND (power), 5 TSET (in), 6 NC, 7 VDD (power), 8 NC

## TC622COA713
designator U?
Low Cost Single Trip Point Temperature Sensor, 8-Pin SOIC, Commercial Temperature, Tape and Reel; Manufacturer: Microchip; PartNumber: TC622COA713; DatasheetVersion: revC, Oct-2005; PackageVersion: revBB, Aug-2009; PackageReference: SOIC-OA8; PackageDescription: 8-Lead Plastic Small Outline (OA) - Narrow, 3.90mm Body [SOIC]; Supplier 1: Digi-Key; Supplier Part Number 1: TC622COA713-ND; Supplier 2: Mouser; Supplier Part Number 2: 579-TC622COA713; Mounting Technology: Surface Mount; Code_IPC: SOIC127P600-8; ComponentLink1Description: Manufacturer URL; ComponentLink1URL: http://www.microchip.com/; ComponentLink2Description: Datasheet; ComponentLink2URL: http://ww1.microchip.com/downloads/en/DeviceDoc/21440C.pdf; ComponentLink3Description: Package Specification; ComponentLink3URL: http://www.microchip.com/stellent/groups/techpub_sg/documents/packagingspec/en012702.pdf
footprint SOIC-OA8_N (SOIC, 8-Leads, Body 4.9x3.9mm, Pitch 1.27mm, IPC Medium Density)
footprint SOIC-OA8_L (SOIC, 8-Leads, Body 4.9x3.9mm, Pitch 1.27mm, IPC High Density)
footprint SOIC-OA8_M (SOIC, 8-Leads, Body 4.9x3.9mm, Pitch 1.27mm, IPC Low Density)
pins: 1 NC, 2 ~{OUT} (out), 3 OUT (out), 4 GND (power), 5 TSET (in), 6 NC, 7 VDD (power), 8 NC

## TC622CPA
designator U?
Low Cost Single Trip Point Temperature Sensor, 8-Pin PDIP, Commercial Temperature; Manufacturer: Microchip; PartNumber: TC622CPA; DatasheetVersion: revC, Oct-2005; PackageVersion: revBB, Aug-2009; PackageReference: PDIP300-PA8; PackageDescription: 8-Lead Plastic Dual In-Line (PA) - 300 mil Body [PDIP]; Supplier 1: Digi-Key; Supplier Part Number 1: TC622CPA-ND; Supplier 2: Newark; Supplier Part Number 2: 33C1173; Supplier 3: Mouser; Supplier Part Number 3: 579-TC622CPA; Mounting Technology: Through Hole; Code_JEDEC: MS-001-BA; ComponentLink1Description: Manufacturer URL; ComponentLink1URL: http://www.microchip.com/; ComponentLink2Description: Datasheet; ComponentLink2URL: http://ww1.microchip.com/downloads/en/DeviceDoc/21440C.pdf; ComponentLink3Description: Package Specification; ComponentLink3URL: http://www.microchip.com/stellent/groups/techpub_sg/documents/packagingspec/en012702.pdf
footprint PDIP300-PA8 (DIP, 8-Leads, Row Spacing 7.62mm, Pitch 2.54mm, Body 9.5x6.6mm)
pins: 1 NC, 2 ~{OUT} (out), 3 OUT (out), 4 GND (power), 5 TSET (in), 6 NC, 7 VDD (power), 8 NC

## TC622EAT
designator U?
Low Cost Single Trip Point Temperature Sensor, 5-Pin TO-220, Industrial Temperature; Manufacturer: Microchip; PartNumber: TC622EAT; DatasheetVersion: revC, Oct-2005; PackageVersion: revBB, Aug-2009; PackageReference: TO-220-AT5; PackageDescription: 5-Lead Plastic Transistor Outline (AT) [TO-220]; Supplier 1: Digi-Key; Supplier Part Number 1: TC622EAT-ND; Supplier 2: Newark; Supplier Part Number 2: 96K4032; Supplier 3: Mouser; Supplier Part Number 3: 579-TC622EAT; Mounting Technology: Through Hole; ComponentLink1Description: Manufacturer URL; ComponentLink1URL: http://www.microchip.com/; ComponentLink2Description: Datasheet; ComponentLink2URL: http://ww1.microchip.com/downloads/en/DeviceDoc/21440C.pdf; ComponentLink3Description: Package Specification; ComponentLink3URL: http://www.microchip.com/stellent/groups/techpub_sg/documents/packagingspec/en012702.pdf
footprint TO-220-AT5 (TO, Thru-Hole, Vertical, Heatsink Mounted; 5 In-Line Leads; Pitch 1.70 mm)
pins: 1 ~{OUT} (out), 2 OUT (out), 3 VDD (power), 4 GND (power), 5 TSET (in)

## TC622EOA
designator U?
Low Cost Single Trip Point Temperature Sensor, 8-Pin SOIC, Industrial Temperature; Manufacturer: Microchip; PartNumber: TC622EOA; DatasheetVersion: revC, Oct-2005; PackageVersion: revBB, Aug-2009; PackageReference: SOIC-OA8; PackageDescription: 8-Lead Plastic Small Outline (OA) - Narrow, 3.90mm Body [SOIC]; Supplier 1: Digi-Key; Supplier Part Number 1: TC622EOA-ND; Supplier 2: Mouser; Supplier Part Number 2: 579-TC622EOA; Mounting Technology: Surface Mount; Code_IPC: SOIC127P600-8; ComponentLink1Description: Manufacturer URL; ComponentLink1URL: http://www.microchip.com/; ComponentLink2Description: Datasheet; ComponentLink2URL: http://ww1.microchip.com/downloads/en/DeviceDoc/21440C.pdf; ComponentLink3Description: Package Specification; ComponentLink3URL: http://www.microchip.com/stellent/groups/techpub_sg/documents/packagingspec/en012702.pdf
footprint SOIC-OA8_N (SOIC, 8-Leads, Body 4.9x3.9mm, Pitch 1.27mm, IPC Medium Density)
footprint SOIC-OA8_L (SOIC, 8-Leads, Body 4.9x3.9mm, Pitch 1.27mm, IPC High Density)
footprint SOIC-OA8_M (SOIC, 8-Leads, Body 4.9x3.9mm, Pitch 1.27mm, IPC Low Density)
pins: 1 NC, 2 ~{OUT} (out), 3 OUT (out), 4 GND (power), 5 TSET (in), 6 NC, 7 VDD (power), 8 NC

## TC622EOA713
designator U?
Low Cost Single Trip Point Temperature Sensor, 8-Pin SOIC, Industrial Temperature, Tape and Reel; Manufacturer: Microchip; PartNumber: TC622EOA713; DatasheetVersion: revC, Oct-2005; PackageVersion: revBB, Aug-2009; PackageReference: SOIC-OA8; PackageDescription: 8-Lead Plastic Small Outline (OA) - Narrow, 3.90mm Body [SOIC]; Supplier 1: Digi-Key; Supplier Part Number 1: TC622EOA713-ND; Supplier 2: Mouser; Supplier Part Number 2: 579-TC622EOA713; Mounting Technology: Surface Mount; Code_IPC: SOIC127P600-8; ComponentLink1Description: Manufacturer URL; ComponentLink1URL: http://www.microchip.com/; ComponentLink2Description: Datasheet; ComponentLink2URL: http://ww1.microchip.com/downloads/en/DeviceDoc/21440C.pdf; ComponentLink3Description: Package Specification; ComponentLink3URL: http://www.microchip.com/stellent/groups/techpub_sg/documents/packagingspec/en012702.pdf
footprint SOIC-OA8_N (SOIC, 8-Leads, Body 4.9x3.9mm, Pitch 1.27mm, IPC Medium Density)
footprint SOIC-OA8_L (SOIC, 8-Leads, Body 4.9x3.9mm, Pitch 1.27mm, IPC High Density)
footprint SOIC-OA8_M (SOIC, 8-Leads, Body 4.9x3.9mm, Pitch 1.27mm, IPC Low Density)
pins: 1 NC, 2 ~{OUT} (out), 3 OUT (out), 4 GND (power), 5 TSET (in), 6 NC, 7 VDD (power), 8 NC

## TC622EPA
designator U?
Low Cost Single Trip Point Temperature Sensor, 8-Pin PDIP, Industrial Temperature; Manufacturer: Microchip; PartNumber: TC622EPA; DatasheetVersion: revC, Oct-2005; PackageVersion: revBB, Aug-2009; PackageReference: PDIP300-PA8; PackageDescription: 8-Lead Plastic Dual In-Line (PA) - 300 mil Body [PDIP]; Supplier 1: Digi-Key; Supplier Part Number 1: TC622EPA-ND; Supplier 2: Mouser; Supplier Part Number 2: 579-TC622EPA; Mounting Technology: Through Hole; Code_JEDEC: MS-001-BA; ComponentLink1Description: Manufacturer URL; ComponentLink1URL: http://www.microchip.com/; ComponentLink2Description: Datasheet; ComponentLink2URL: http://ww1.microchip.com/downloads/en/DeviceDoc/21440C.pdf; ComponentLink3Description: Package Specification; ComponentLink3URL: http://www.microchip.com/stellent/groups/techpub_sg/documents/packagingspec/en012702.pdf
footprint PDIP300-PA8 (DIP, 8-Leads, Row Spacing 7.62mm, Pitch 2.54mm, Body 9.5x6.6mm)
pins: 1 NC, 2 ~{OUT} (out), 3 OUT (out), 4 GND (power), 5 TSET (in), 6 NC, 7 VDD (power), 8 NC

## TC622VAT
designator U?
Low Cost Single Trip Point Temperature Sensor, 5-Pin TO-220, Extended Temperature; Manufacturer: Microchip; PartNumber: TC622VAT; DatasheetVersion: revC, Oct-2005; PackageVersion: revBB, Aug-2009; PackageReference: TO-220-AT5; PackageDescription: 5-Lead Plastic Transistor Outline (AT) [TO-220]; Supplier 1: Digi-Key; Supplier Part Number 1: TC622VAT-ND; Supplier 2: Newark; Supplier Part Number 2: 85C1190; Supplier 3: Mouser; Supplier Part Number 3: 579-TC622VAT; Mounting Technology: Through Hole; ComponentLink1Description: Manufacturer URL; ComponentLink1URL: http://www.microchip.com/; ComponentLink2Description: Datasheet; ComponentLink2URL: http://ww1.microchip.com/downloads/en/DeviceDoc/21440C.pdf; ComponentLink3Description: Package Specification; ComponentLink3URL: http://www.microchip.com/stellent/groups/techpub_sg/documents/packagingspec/en012702.pdf
footprint TO-220-AT5 (TO, Thru-Hole, Vertical, Heatsink Mounted; 5 In-Line Leads; Pitch 1.70 mm)
pins: 1 ~{OUT} (out), 2 OUT (out), 3 VDD (power), 4 GND (power), 5 TSET (in)

## TC622VOA
designator U?
Low Cost Single Trip Point Temperature Sensor, 8-Pin SOIC, Extended Temperature; Manufacturer: Microchip; PartNumber: TC622VOA; DatasheetVersion: revC, Oct-2005; PackageVersion: revBB, Aug-2009; PackageReference: SOIC-OA8; PackageDescription: 8-Lead Plastic Small Outline (OA) - Narrow, 3.90mm Body [SOIC]; Supplier 1: Digi-Key; Supplier Part Number 1: TC622VOA-ND; Supplier 2: Farnell; Supplier Part Number 2: 1852244; Supplier 3: Newark; Supplier Part Number 3: 92C6338; Supplier 4: Mouser; Supplier Part Number 4: 579-TC622VOA; Mounting Technology: Surface Mount; Code_IPC: SOIC127P600-8; ComponentLink1Description: Manufacturer URL; ComponentLink1URL: http://www.microchip.com/; ComponentLink2Description: Datasheet; ComponentLink2URL: http://ww1.microchip.com/downloads/en/DeviceDoc/21440C.pdf; ComponentLink3Description: Package Specification; ComponentLink3URL: http://www.microchip.com/stellent/groups/techpub_sg/documents/packagingspec/en012702.pdf
footprint SOIC-OA8_N (SOIC, 8-Leads, Body 4.9x3.9mm, Pitch 1.27mm, IPC Medium Density)
footprint SOIC-OA8_L (SOIC, 8-Leads, Body 4.9x3.9mm, Pitch 1.27mm, IPC High Density)
footprint SOIC-OA8_M (SOIC, 8-Leads, Body 4.9x3.9mm, Pitch 1.27mm, IPC Low Density)
pins: 1 NC, 2 ~{OUT} (out), 3 OUT (out), 4 GND (power), 5 TSET (in), 6 NC, 7 VDD (power), 8 NC

## TC622VOA713
designator U?
Low Cost Single Trip Point Temperature Sensor, 8-Pin SOIC, Extended Temperature, Tape and Reel; Manufacturer: Microchip; PartNumber: TC622VOA713; DatasheetVersion: revC, Oct-2005; PackageVersion: revBB, Aug-2009; PackageReference: SOIC-OA8; PackageDescription: 8-Lead Plastic Small Outline (OA) - Narrow, 3.90mm Body [SOIC]; Supplier 1: Digi-Key; Supplier Part Number 1: TC622VOA713-ND; Supplier 2: Mouser; Supplier Part Number 2: 579-TC622VOA713; Mounting Technology: Surface Mount; Code_IPC: SOIC127P600-8; ComponentLink1Description: Manufacturer URL; ComponentLink1URL: http://www.microchip.com/; ComponentLink2Description: Datasheet; ComponentLink2URL: http://ww1.microchip.com/downloads/en/DeviceDoc/21440C.pdf; ComponentLink3Description: Package Specification; ComponentLink3URL: http://www.microchip.com/stellent/groups/techpub_sg/documents/packagingspec/en012702.pdf
footprint SOIC-OA8_N (SOIC, 8-Leads, Body 4.9x3.9mm, Pitch 1.27mm, IPC Medium Density)
footprint SOIC-OA8_L (SOIC, 8-Leads, Body 4.9x3.9mm, Pitch 1.27mm, IPC High Density)
footprint SOIC-OA8_M (SOIC, 8-Leads, Body 4.9x3.9mm, Pitch 1.27mm, IPC Low Density)
pins: 1 NC, 2 ~{OUT} (out), 3 OUT (out), 4 GND (power), 5 TSET (in), 6 NC, 7 VDD (power), 8 NC

## TC622VPA
designator U?
Low Cost Single Trip Point Temperature Sensor, 8-Pin PDIP, Extended Temperature; Manufacturer: Microchip; PartNumber: TC622VPA; DatasheetVersion: revC, Oct-2005; PackageVersion: revBB, Aug-2009; PackageReference: PDIP300-PA8; PackageDescription: 8-Lead Plastic Dual In-Line (PA) - 300 mil Body [PDIP]; Supplier 1: Digi-Key; Supplier Part Number 1: TC622VPA-ND; Supplier 2: Newark; Supplier Part Number 2: 92C6340; Supplier 3: Mouser; Supplier Part Number 3: 579-TC622VPA; Mounting Technology: Through Hole; Code_JEDEC: MS-001-BA; ComponentLink1Description: Manufacturer URL; ComponentLink1URL: http://www.microchip.com/; ComponentLink2Description: Datasheet; ComponentLink2URL: http://ww1.microchip.com/downloads/en/DeviceDoc/21440C.pdf; ComponentLink3Description: Package Specification; ComponentLink3URL: http://www.microchip.com/stellent/groups/techpub_sg/documents/packagingspec/en012702.pdf
footprint PDIP300-PA8 (DIP, 8-Leads, Row Spacing 7.62mm, Pitch 2.54mm, Body 9.5x6.6mm)
pins: 1 NC, 2 ~{OUT} (out), 3 OUT (out), 4 GND (power), 5 TSET (in), 6 NC, 7 VDD (power), 8 NC

## TC623CCOA
designator U?
3V, Dual Trip Point Temperature Sensor, 8-Pin SOIC, Commercial Temperature; Manufacturer: Microchip; PartNumber: TC623CCOA; DatasheetVersion: revC, Oct-2005; PackageVersion: revBB, Aug-2009; PackageReference: SOIC-OA8; PackageDescription: 8-Lead Plastic Small Outline (OA) - Narrow, 3.90mm Body [SOIC]; Supplier 1: Digi-Key; Supplier Part Number 1: TC623CCOA-ND; Supplier 2: Mouser; Supplier Part Number 2: 579-TC623CCOA; Mounting Technology: Surface Mount; Code_IPC: SOIC127P600-8; ComponentLink1Description: Manufacturer URL; ComponentLink1URL: http://www.microchip.com/; ComponentLink2Description: Datasheet; ComponentLink2URL: http://ww1.microchip.com/downloads/en/DeviceDoc/21441C.pdf; ComponentLink3Description: Package Specification; ComponentLink3URL: http://www.microchip.com/stellent/groups/techpub_sg/documents/packagingspec/en012702.pdf
footprint SOIC-OA8_N (SOIC, 8-Leads, Body 4.9x3.9mm, Pitch 1.27mm, IPC Medium Density)
footprint SOIC-OA8_L (SOIC, 8-Leads, Body 4.9x3.9mm, Pitch 1.27mm, IPC High Density)
footprint SOIC-OA8_M (SOIC, 8-Leads, Body 4.9x3.9mm, Pitch 1.27mm, IPC Low Density)
pins: 1 NC, 2 LOW SET (in), 3 HIGH SET (in), 4 GND (power), 5 CTRL (out), 6 HIGH LIM (out), 7 LOW LIM (out), 8 VCC (power)

## TC623CCOA713
designator U?
3V, Dual Trip Point Temperature Sensor, 8-Pin SOIC, Commercial Temperature, Tape and Reel; Manufacturer: Microchip; PartNumber: TC623CCOA713; DatasheetVersion: revC, Oct-2005; PackageVersion: revBB, Aug-2009; PackageReference: SOIC-OA8; PackageDescription: 8-Lead Plastic Small Outline (OA) - Narrow, 3.90mm Body [SOIC]; Supplier 1: Digi-Key; Supplier Part Number 1: TC623CCOA713-ND; Supplier 2: Mouser; Supplier Part Number 2: 579-TC623CCOA713; Mounting Technology: Surface Mount; Code_IPC: SOIC127P600-8; ComponentLink1Description: Manufacturer URL; ComponentLink1URL: http://www.microchip.com/; ComponentLink2Description: Datasheet; ComponentLink2URL: http://ww1.microchip.com/downloads/en/DeviceDoc/21441C.pdf; ComponentLink3Description: Package Specification; ComponentLink3URL: http://www.microchip.com/stellent/groups/techpub_sg/documents/packagingspec/en012702.pdf
footprint SOIC-OA8_N (SOIC, 8-Leads, Body 4.9x3.9mm, Pitch 1.27mm, IPC Medium Density)
footprint SOIC-OA8_L (SOIC, 8-Leads, Body 4.9x3.9mm, Pitch 1.27mm, IPC High Density)
footprint SOIC-OA8_M (SOIC, 8-Leads, Body 4.9x3.9mm, Pitch 1.27mm, IPC Low Density)
pins: 1 NC, 2 LOW SET (in), 3 HIGH SET (in), 4 GND (power), 5 CTRL (out), 6 HIGH LIM (out), 7 LOW LIM (out), 8 VCC (power)

## TC623CCPA
designator U?
3V, Dual Trip Point Temperature Sensor, 8-Pin PDIP, Commercial Temperature; Manufacturer: Microchip; PartNumber: TC623CCPA; DatasheetVersion: revC, Oct-2005; PackageVersion: revBB, Aug-2009; PackageReference: PDIP300-PA8; PackageDescription: 8-Lead Plastic Dual In-Line (PA) - 300 mil Body [PDIP]; Supplier 1: Digi-Key; Supplier Part Number 1: TC623CCPA-ND; Supplier 2: Mouser; Supplier Part Number 2: 579-TC623CCPA; Mounting Technology: Through Hole; Code_JEDEC: MS-001-BA; ComponentLink1Description: Manufacturer URL; ComponentLink1URL: http://www.microchip.com/; ComponentLink2Description: Datasheet; ComponentLink2URL: http://ww1.microchip.com/downloads/en/DeviceDoc/21441C.pdf; ComponentLink3Description: Package Specification; ComponentLink3URL: http://www.microchip.com/stellent/groups/techpub_sg/documents/packagingspec/en012702.pdf
footprint PDIP300-PA8 (DIP, 8-Leads, Row Spacing 7.62mm, Pitch 2.54mm, Body 9.5x6.6mm)
pins: 1 NC, 2 LOW SET (in), 3 HIGH SET (in), 4 GND (power), 5 CTRL (out), 6 HIGH LIM (out), 7 LOW LIM (out), 8 VCC (power)

## TC623CEOA
designator U?
3V, Dual Trip Point Temperature Sensor, 8-Pin SOIC, Industrial Temperature; Manufacturer: Microchip; PartNumber: TC623CEOA; DatasheetVersion: revC, Oct-2005; PackageVersion: revBB, Aug-2009; PackageReference: SOIC-OA8; PackageDescription: 8-Lead Plastic Small Outline (OA) - Narrow, 3.90mm Body [SOIC]; Supplier 1: Digi-Key; Supplier Part Number 1: TC623CEOA-ND; Supplier 2: Mouser; Supplier Part Number 2: 579-TC623CEOA; Mounting Technology: Surface Mount; Code_IPC: SOIC127P600-8; ComponentLink1Description: Manufacturer URL; ComponentLink1URL: http://www.microchip.com/; ComponentLink2Description: Datasheet; ComponentLink2URL: http://ww1.microchip.com/downloads/en/DeviceDoc/21441C.pdf; ComponentLink3Description: Package Specification; ComponentLink3URL: http://www.microchip.com/stellent/groups/techpub_sg/documents/packagingspec/en012702.pdf
footprint SOIC-OA8_N (SOIC, 8-Leads, Body 4.9x3.9mm, Pitch 1.27mm, IPC Medium Density)
footprint SOIC-OA8_L (SOIC, 8-Leads, Body 4.9x3.9mm, Pitch 1.27mm, IPC High Density)
footprint SOIC-OA8_M (SOIC, 8-Leads, Body 4.9x3.9mm, Pitch 1.27mm, IPC Low Density)
pins: 1 NC, 2 LOW SET (in), 3 HIGH SET (in), 4 GND (power), 5 CTRL (out), 6 HIGH LIM (out), 7 LOW LIM (out), 8 VCC (power)

## TC623CEOA713
designator U?
3V, Dual Trip Point Temperature Sensor, 8-Pin SOIC, Industrial Temperature, Tape and Reel; Manufacturer: Microchip; PartNumber: TC623CEOA713; DatasheetVersion: revC, Oct-2005; PackageVersion: revBB, Aug-2009; PackageReference: SOIC-OA8; PackageDescription: 8-Lead Plastic Small Outline (OA) - Narrow, 3.90mm Body [SOIC]; Supplier 1: Digi-Key; Supplier Part Number 1: TC623CEOA713-ND; Supplier 2: Mouser; Supplier Part Number 2: 579-TC623CEOA713; Mounting Technology: Surface Mount; Code_IPC: SOIC127P600-8; ComponentLink1Description: Manufacturer URL; ComponentLink1URL: http://www.microchip.com/; ComponentLink2Description: Datasheet; ComponentLink2URL: http://ww1.microchip.com/downloads/en/DeviceDoc/21441C.pdf; ComponentLink3Description: Package Specification; ComponentLink3URL: http://www.microchip.com/stellent/groups/techpub_sg/documents/packagingspec/en012702.pdf
footprint SOIC-OA8_N (SOIC, 8-Leads, Body 4.9x3.9mm, Pitch 1.27mm, IPC Medium Density)
footprint SOIC-OA8_L (SOIC, 8-Leads, Body 4.9x3.9mm, Pitch 1.27mm, IPC High Density)
footprint SOIC-OA8_M (SOIC, 8-Leads, Body 4.9x3.9mm, Pitch 1.27mm, IPC Low Density)
pins: 1 NC, 2 LOW SET (in), 3 HIGH SET (in), 4 GND (power), 5 CTRL (out), 6 HIGH LIM (out), 7 LOW LIM (out), 8 VCC (power)